# EAGLE library part ACSL-6420 (library NBitWonder)
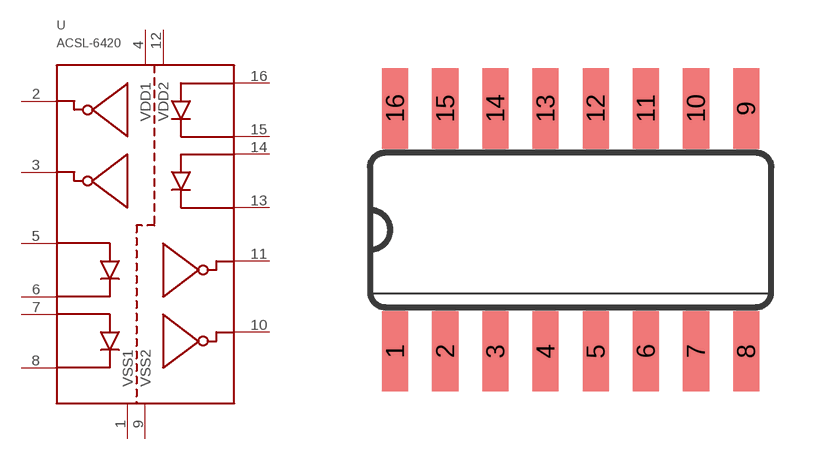
[diagram p10: symbol with the pads of SO16_3.9; footprint SO16_3.9]

Designator prefix -

## ACSL-6420  [SO16_3.9]
1  VSS1
2  VD4
3  VD3
4  VDD1
5  ANODE1
6  CATHODE1
7  ANODE2
8  CATHODE2
9  VSS2
10  VD2
11  VD1
12  VDD2
13  CATHODE3
14  ANODE3
15  CATHODE4
16  ANODE4

## Footprint SO16_3.9 (pad centres in mm)
smd 0.66 x 2.032: 1 -4.445,-3.073; 2 -3.175,-3.073; 3 -1.905,-3.073; 4 -0.635,-3.073; 5 0.635,-3.073; 6 1.905,-3.073; 7 3.175,-3.073; 8 4.445,-3.073; 9 4.445,3.073; 10 3.175,3.073; 11 1.905,3.073; 12 0.635,3.073; 13 -0.635,3.073; 14 -1.905,3.073; 15 -3.175,3.073; 16 -4.445,3.073